# Altium footprint library SKF2.5-5V4_vert.PcbLib: 1 footprints
Each footprint in its own frame and in the unit in brackets; x right, y up, seen from the top. Pads: shape width x height; smd on the part's side, far side on the other; paste and mask are expansions set on the pad; w line width, h text height; cw(c..) or ccw(c..) is an arc to the next point about the centre after c.
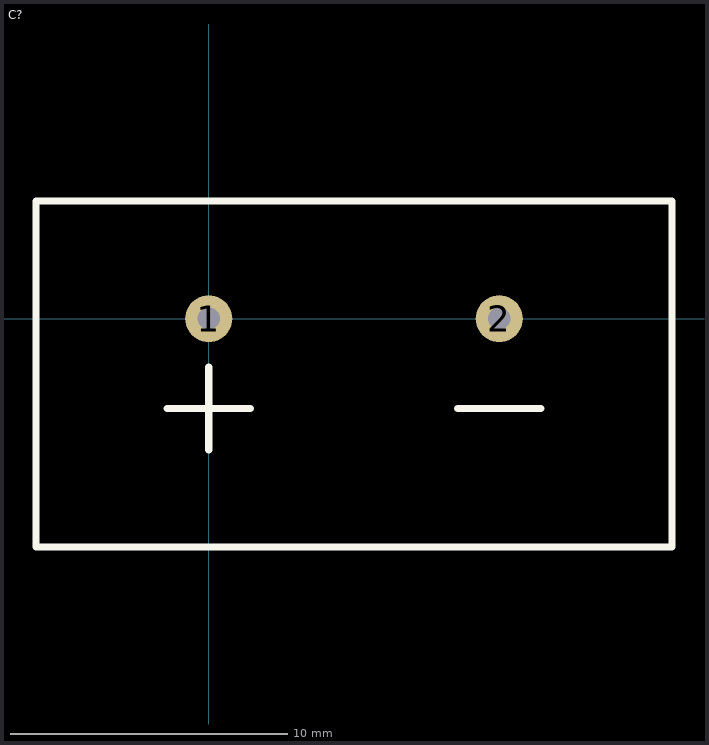
[diagram p0: the footprint, top view; thin cyan lines are the x and y axes]

## C? [mm] "СКФ-2,5-5В4"
pads (2):
  round 1.7 hole 0.8: 1(0,0) 2(10.5,0)
Top Overlay:
  lines w0.254: -6.25,3.25 -6.25,4.25 ; -1.5,-3.25 1.5,-3.25 ; 0,-4.75 0,-1.75 ; 9,-3.25 12,-3.25 ; -6.25,4.25 16.75,4.25 16.75,-8.25 -6.25,-8.25 -6.25,4.25
3D body "Supercap 2.5F 5.4V_vert.x_t": height 23.5, standoff -4.5, extent -5.25,-7.3 15.75,3.2